# EAGLE library part HFBR2528 (library opto-transmittter-hp)
OPTO RECEIVER
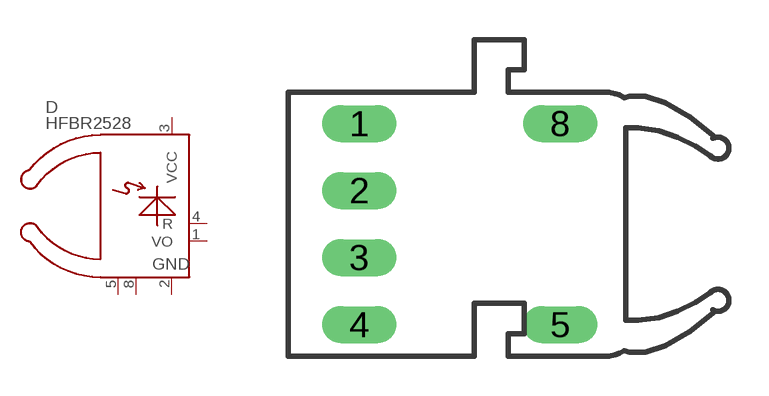
[diagram p1: symbol with the pads of HFBR25XX; footprint HFBR25XX]

Designator prefix D

## HFBR2528  [HFBR25XX]
1  VO  out
2  GND  pas
3  VCC  pas
4  R  out
5  1  pas
8  4  pas

## Footprint HFBR25XX (pad centres in mm)
OPTO RECEIVER
drill 0.9 long: 1 0,3.81; 2 0,1.27; 3 0,-1.27; 4 0,-3.81; 5 7.62,-3.81; 8 7.62,3.81